# EAGLE library part CH330N (library alvie)
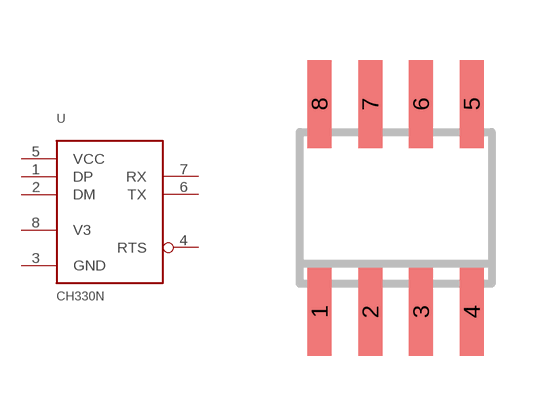
[diagram p75: symbol with the pads of SOIC8; footprint SOIC8]

Designator prefix -

## CH330N  [SOIC8]
1  DP  pas
2  DM  pas
3  GND  pwr
4  RTS  out
5  VCC  pwr
6  TX  out
7  RX  in
8  V3  pas

## Footprint SOIC8 (pad centres in mm)
smd 0.6 x 2.2: 1 -1.905,-2.6; 2 -0.635,-2.6; 3 0.635,-2.6; 4 1.905,-2.6; 5 1.905,2.6; 6 0.635,2.6; 7 -0.635,2.6; 8 -1.905,2.6